# EAGLE library part MICROSD-DM3D (library f-connector-interface)
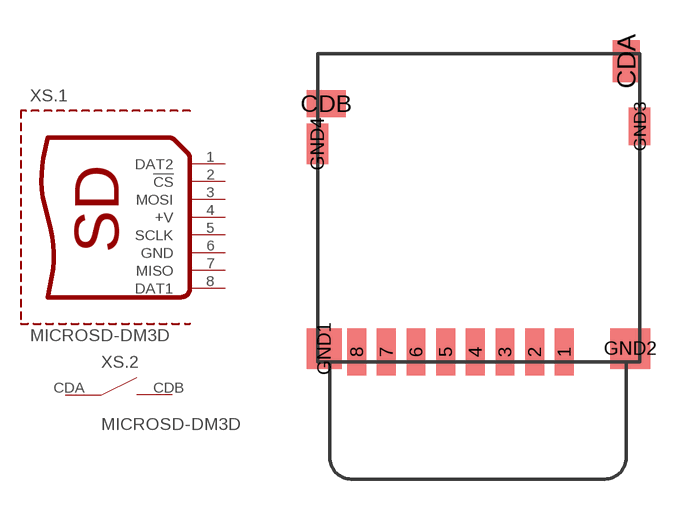
[diagram p6: symbol with the pads of HRS-DM3D; footprint HRS-DM3D]

Designator prefix XS; gates .1=MICROSD .2=SWITCH

## MICROSD-DM3D  [HRS-DM3D]
1  .1:DAT2
2  .1:!CS
3  .1:MOSI
4  .1:+V
5  .1:SCLK
6  .1:GND
7  .1:MISO
8  .1:DAT1
CDA  .2:S1
CDB  .2:S2
GND1  .1:SHIELD
GND2  .1:SHIELD
GND3  .1:SHIELD
GND4  .1:SHIELD

## Footprint HRS-DM3D (pad centres in mm)
smd 0.7 x 1.75: 1 3.2,-0.875; 2 2.1,-0.875; 3 1,-0.875; 4 -0.1,-0.875; 5 -1.2,-0.875; 6 -2.3,-0.875; 7 -3.4,-0.875; 8 -4.5,-0.875
smd 1 x 1.55: CDA 5.5,9.925
smd 1.45 x 1: CDB -5.625,8.35
smd 1.3 x 1.5: GND1 -5.7,-0.75
smd 1.5 x 1.5: GND2 5.65,-0.75
smd 0.8 x 1.4: GND3 6,7.5
smd 0.8 x 1.5: GND4 -5.95,6.85